# Altium footprint library PCB1.PcbLib: 33 footprints (part 3 of 3)
Each footprint in its own frame and in the unit in brackets; x right, y up, seen from the top. Pads: shape width x height; smd on the part's side, far side on the other; paste and mask are expansions set on the pad; w line width, h text height; cw(c..) or ccw(c..) is an arc to the next point about the centre after c.
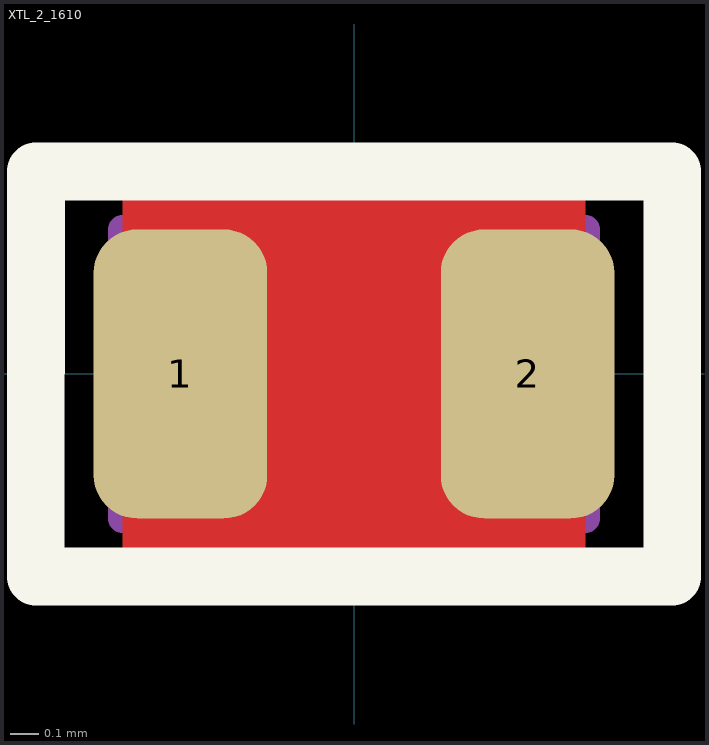
[diagram p2: the footprint, top view; thin cyan lines are the x and y axes]

## XTL_2_1610 [mm] "Crystals 1.6 mm x 1.0 mm"
height 0.5
pads (2):
  rrect50% 0.6x1 smd mask+0.1: 1(-0.6,0) 2(0.6,0)
Top Layer:
  pour cut-out: -0.8,-0.6 0.8,-0.6 0.8,0.6 -0.8,0.6
Top Overlay:
  lines w0.2: -1.1,-0.7 1.1,-0.7 1.1,0.7 -1.1,0.7 -1.1,-0.7
Mechanical 13:
  lines w0.1: -0.8,-0.5 0.8,-0.5 0.8,0.5 -0.8,0.5 -0.8,-0.5
3D body "ABS05.STEP": height 0.5, standoff 0, extent -0.8,-0.5 0.8,0.5